# Altium schematic symbol library MAX31790.SchLib: 1 symbol
Pins are listed as number, name and electrical type; pins without a type are passive.

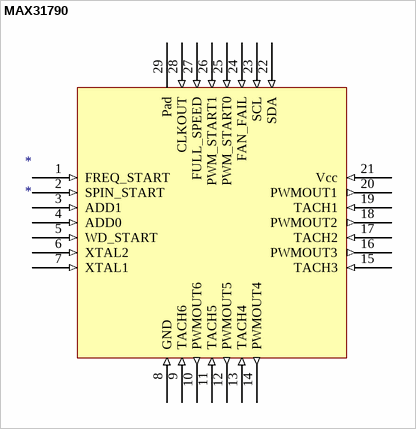
[diagram p0: symbol MAX31790]

## MAX31790
designator *
footprint QFN40P400X400X80_HS-29N (QFN, 28-Leads, Body 4.00x4.00mm, Pitch 0.40mm, Thermal Pad 2.64x2.64mm, IPC Medium Density)
pins: 1 FREQ_START (in), 2 SPIN_START (in), 3 ADD1 (in), 4 ADD0 (in), 5 WD_START (in), 6 XTAL2 (in), 7 XTAL1 (in), 8 GND (in), 9 TACH6 (in), 10 PWMOUT6 (out), 11 TACH5 (in), 12 PWMOUT5 (out), 13 TACH4 (in), 14 PWMOUT4 (out), 15 TACH3 (in), 16 PWMOUT3 (out), 17 TACH2 (in), 18 PWMOUT2 (out), 19 TACH1 (in), 20 PWMOUT1 (out), 21 Vcc (in), 22 SDA (in), 23 SCL (in), 24 FAN_FAIL (in), 25 PWM_START0 (in), 26 PWM_START1 (in), 27 FULL_SPEED (in), 28 CLKOUT (in), 29 Pad